# EAGLE library part YM2151 (library YM)
Dual In Line
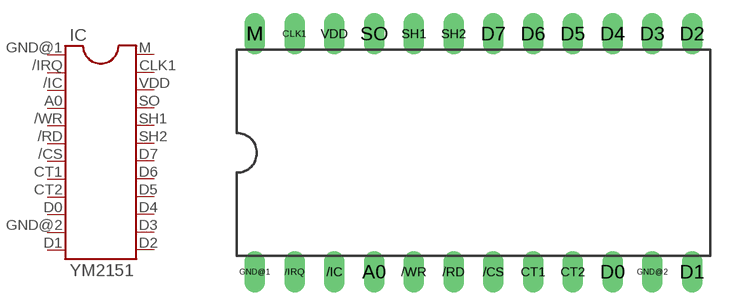
[diagram p3: symbol with the pads of YM2151; footprint YM2151]

Designator prefix IC

## YM2151  [YM2151]
/CS  /CS  pas
/IC  /IC  pas
/IRQ  /IRQ  pas
/RD  /RD  pas
/WR  /WR  pas
A0  A0  pas
CLK1  CLK1  pas
CT1  CT1  pas
CT2  CT2  pas
D0  D0  pas
D1  D1  pas
D2  D2  pas
D3  D3  pas
D4  D4  pas
D5  D5  pas
D6  D6  pas
D7  D7  pas
GND@1  GND  pas
GND@2  GND  pas
M  M  pas
SH1  SH1  pas
SH2  SH2  pas
SO  SO  pas
VDD  VDD  pas

## Footprint YM2151 (pad centres in mm)
Dual In Line Package 0.6 inch
drill 0.813 long: /CS 1.27,-7.62; /IC -8.89,-7.62; /IRQ -11.43,-7.62; /RD -1.27,-7.62; /WR -3.81,-7.62; A0 -6.35,-7.62; CLK1 -11.43,7.62; CT1 3.81,-7.62; CT2 6.35,-7.62; D0 8.89,-7.62; D1 13.97,-7.62; D2 13.97,7.62; D3 11.43,7.62; D4 8.89,7.62; D5 6.35,7.62; D6 3.81,7.62; D7 1.27,7.62; GND@1 -13.97,-7.62; GND@2 11.43,-7.62; M -13.97,7.62; SH1 -3.81,7.62; SH2 -1.27,7.62; SO -6.35,7.62; VDD -8.89,7.62